# Altium integrated library Altium_WCAP-FTBE (rev22a).IntLib: 31 symbols
Pins are listed as number, name and electrical type; pins without a type are passive.

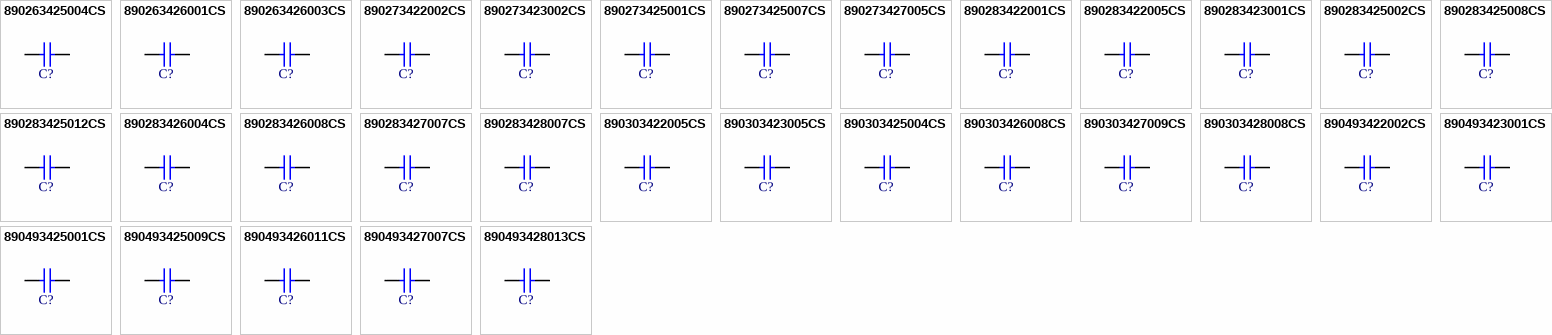
[diagram p0: symbols 890263425004CS to 890493428013CS]

## 890263425004CS
designator C?, comment 2.2uF  (value not drawn)
WCAP-FTBE Film Capacitor, THT, L18W8.5H15mm, 2.2uF, 100V; Manufacturer: Wurth Elektronik; Manufacturer Part Number: 890263425004CS; Capacitance Tolerance: +/-10%; Dissipation Factor @1kHz: 1%; Dissipation Factor @10kHz: 1.6%; Dissipation Factor @100kHz: 5%; Insulation Resistance: 3000Ohm x F; Pitch: 15mm; Rate of Voltage Rise: 9V/us; Technical Reference: MPSP015225K100DCPP45004; ComponentLink1Description: Manufacturer Link; ComponentLink1URL: https://www.we-online.com/redexpert/article/890263425004CS?ad; ComponentLink2Description: Datasheet; ComponentLink2URL: https://www.we-online.com/redexpert/spec/890263425004CS?ad; Category: Film Capacitors; Match Code: WCAP-FTBE; Mount: Through Hole; Operating Temperature Max: 85°C; Operating Temperature Min: -40°C; Packaging: Carton; Length: 18mm; Width: 8.5mm; Height: 15mm; Capacitance: 2.2uF; Rated Voltage (DC): 100V
footprint WCAP-FTBE_L18W8.5H15
pins: 1, 2

## 890263426001CS
designator C?, comment 2.2uF  (value not drawn)
WCAP-FTBE Film Capacitor, THT, L26W6H15mm, 2.2uF, 100V; Manufacturer: Wurth Elektronik; Manufacturer Part Number: 890263426001CS; Capacitance Tolerance: +/-10%; Dissipation Factor @1kHz: 1%; Dissipation Factor @10kHz: 2%; Dissipation Factor @100kHz: 10%; Insulation Resistance: 3000Ohm x F; Pitch: 22.5mm; Rate of Voltage Rise: 5V/us; Technical Reference: MPSP225225K100DCPP45004; ComponentLink1Description: Manufacturer Link; ComponentLink1URL: https://www.we-online.com/redexpert/article/890263426001CS?ad; ComponentLink2Description: Datasheet; ComponentLink2URL: https://www.we-online.com/redexpert/spec/890263426001CS?ad; Category: Film Capacitors; Match Code: WCAP-FTBE; Mount: Through Hole; Operating Temperature Max: 85°C; Operating Temperature Min: -40°C; Packaging: Carton; Length: 26mm; Width: 6mm; Height: 15mm; Capacitance: 2.2uF; Rated Voltage (DC): 100V
footprint WCAP-FTBE_L26W6H15
pins: 1, 2

## 890263426003CS
designator C?, comment 3.3uF  (value not drawn)
WCAP-FTBE Film Capacitor, THT, L26W7H16.5mm, 3.3uF, 100V; Manufacturer: Wurth Elektronik; Manufacturer Part Number: 890263426003CS; Capacitance Tolerance: +/-10%; Dissipation Factor @1kHz: 1%; Dissipation Factor @10kHz: 2.1%; Dissipation Factor @100kHz: 10%; Insulation Resistance: 3000Ohm x F; Pitch: 22.5mm; Rate of Voltage Rise: 5V/us; Technical Reference: MPSP225335K100DCPP35004; ComponentLink1Description: Manufacturer Link; ComponentLink1URL: https://www.we-online.com/redexpert/article/890263426003CS?ad; ComponentLink2Description: Datasheet; ComponentLink2URL: https://www.we-online.com/redexpert/spec/890263426003CS?ad; Category: Film Capacitors; Match Code: WCAP-FTBE; Mount: Through Hole; Operating Temperature Max: 85°C; Operating Temperature Min: -40°C; Packaging: Carton; Length: 26mm; Width: 7mm; Height: 16.5mm; Capacitance: 3.3uF; Rated Voltage (DC): 100V
footprint WCAP-FTBE_L26W7H16.5
pins: 1, 2

## 890273422002CS
designator C?, comment 220nF  (value not drawn)
WCAP-FTBE Film Capacitor, THT, L10.5W6H12mm, 220nF, 250V; Manufacturer: Wurth Elektronik; Manufacturer Part Number: 890273422002CS; Capacitance Tolerance: +/-10%; Dissipation Factor @1kHz: 1%; Dissipation Factor @10kHz: 1.4%; Dissipation Factor @100kHz: 2.4%; Insulation Resistance: 9000MOhm; Pitch: 7.5mm; Rate of Voltage Rise: 38V/us; Technical Reference: MPSP075224K250DCPP45004; ComponentLink1Description: Manufacturer Link; ComponentLink1URL: https://www.we-online.com/redexpert/article/890273422002CS?ad; ComponentLink2Description: Datasheet; ComponentLink2URL: https://www.we-online.com/redexpert/spec/890273422002CS?ad; Category: Film Capacitors; Match Code: WCAP-FTBE; Mount: Through Hole; Operating Temperature Max: 85°C; Operating Temperature Min: -40°C; Packaging: Carton; Length: 10.5mm; Width: 6mm; Height: 12mm; Capacitance: 220nF; Rated Voltage (DC): 250V
footprint WCAP-FTBE_L10.5W6H12
pins: 1, 2

## 890273423002CS
designator C?, comment 220nF  (value not drawn)
WCAP-FTBE Film Capacitor, THT, L13W5H11mm, 220nF, 250V; Manufacturer: Wurth Elektronik; Manufacturer Part Number: 890273423002CS; Capacitance Tolerance: +/-10%; Dissipation Factor @1kHz: 1%; Dissipation Factor @10kHz: 1.4%; Dissipation Factor @100kHz: 3.1%; Insulation Resistance: 9000MOhm; Pitch: 10mm; Rate of Voltage Rise: 23V/us; Technical Reference: MPSP010224K250DCPP55004; ComponentLink1Description: Manufacturer Link; ComponentLink1URL: https://www.we-online.com/redexpert/article/890273423002CS?ad; ComponentLink2Description: Datasheet; ComponentLink2URL: https://www.we-online.com/redexpert/spec/890273423002CS?ad; Category: Film Capacitors; Match Code: WCAP-FTBE; Mount: Through Hole; Operating Temperature Max: 85°C; Operating Temperature Min: -40°C; Packaging: Carton; Length: 13mm; Width: 5mm; Height: 11mm; Capacitance: 220nF; Rated Voltage (DC): 250V
footprint WCAP-FTBE_L13W5H11
pins: 1, 2

## 890273425001CS
designator C?, comment 330nF  (value not drawn)
WCAP-FTBE Film Capacitor, THT, L18W5H11mm, 330nF, 250V; Manufacturer: Wurth Elektronik; Manufacturer Part Number: 890273425001CS; Capacitance Tolerance: +/-10%; Dissipation Factor @1kHz: 1%; Dissipation Factor @10kHz: 1.5%; Dissipation Factor @100kHz: 4%; Insulation Resistance: 9000MOhm; Pitch: 15mm; Rate of Voltage Rise: 8V/us; Technical Reference: MPSP015334K250DCPP45004; ComponentLink1Description: Manufacturer Link; ComponentLink1URL: https://www.we-online.com/redexpert/article/890273425001CS?ad; ComponentLink2Description: Datasheet; ComponentLink2URL: https://www.we-online.com/redexpert/spec/890273425001CS?ad; Category: Film Capacitors; Match Code: WCAP-FTBE; Mount: Through Hole; Operating Temperature Max: 85°C; Operating Temperature Min: -40°C; Packaging: Carton; Length: 18mm; Width: 5mm; Height: 11mm; Capacitance: 330nF; Rated Voltage (DC): 250V
footprint WCAP-FTBE_L18W5H11
pins: 1, 2

## 890273425007CS
designator C?, comment 1uF  (value not drawn)
WCAP-FTBE Film Capacitor, THT, L18W7H13mm, 1uF, 250V; Manufacturer: Wurth Elektronik; Manufacturer Part Number: 890273425007CS; Capacitance Tolerance: +/-10%; Dissipation Factor @1kHz: 1%; Dissipation Factor @10kHz: 1.5%; Dissipation Factor @100kHz: 4.3%; Insulation Resistance: 3000Ohm x F; Pitch: 15mm; Rate of Voltage Rise: 11V/us; Technical Reference: MPSP015105K250DCPP45004; ComponentLink1Description: Manufacturer Link; ComponentLink1URL: https://www.we-online.com/redexpert/article/890273425007CS?ad; ComponentLink2Description: Datasheet; ComponentLink2URL: https://www.we-online.com/redexpert/spec/890273425007CS?ad; Category: Film Capacitors; Match Code: WCAP-FTBE; Mount: Through Hole; Operating Temperature Max: 85°C; Operating Temperature Min: -40°C; Packaging: Carton; Length: 18mm; Width: 7mm; Height: 13mm; Capacitance: 1uF; Rated Voltage (DC): 250V
footprint WCAP-FTBE_L18W7H13
pins: 1, 2

## 890273427005CS
designator C?, comment 4.7uF  (value not drawn)
WCAP-FTBE Film Capacitor, THT, L31W11H20mm, 4.7uF, 250V; Manufacturer: Wurth Elektronik; Manufacturer Part Number: 890273427005CS; Capacitance Tolerance: +/-10%; Dissipation Factor @1kHz: 1%; Dissipation Factor @10kHz: 2.2%; Dissipation Factor @100kHz: 11%; Insulation Resistance: 3000Ohm x F; Pitch: 27.5mm; Rate of Voltage Rise: 6V/us; Technical Reference: MPSP275475K250DCPP35004; ComponentLink1Description: Manufacturer Link; ComponentLink1URL: https://www.we-online.com/redexpert/article/890273427005CS?ad; ComponentLink2Description: Datasheet; ComponentLink2URL: https://www.we-online.com/redexpert/spec/890273427005CS?ad; Category: Film Capacitors; Match Code: WCAP-FTBE; Mount: Through Hole; Operating Temperature Max: 85°C; Operating Temperature Min: -40°C; Packaging: Carton; Length: 31mm; Width: 11mm; Height: 20mm; Capacitance: 4.7uF; Rated Voltage (DC): 250V
footprint WCAP-FTBE_L31W11H20
pins: 1, 2

## 890283422001CS
designator C?, comment 68nF  (value not drawn)
WCAP-FTBE Film Capacitor, THT, L10.5W5H11mm, 68nF, 400V; Manufacturer: Wurth Elektronik; Manufacturer Part Number: 890283422001CS; Capacitance Tolerance: +/-10%; Dissipation Factor @1kHz: 1%; Dissipation Factor @10kHz: 1.4%; Dissipation Factor @100kHz: 2.3%; Insulation Resistance: 9000MOhm; Pitch: 7.5mm; Rate of Voltage Rise: 44V/us; Technical Reference: MPSP075683K400DCPP45004; ComponentLink1Description: Manufacturer Link; ComponentLink1URL: https://www.we-online.com/redexpert/article/890283422001CS?ad; ComponentLink2Description: Datasheet; ComponentLink2URL: https://www.we-online.com/redexpert/spec/890283422001CS?ad; Category: Film Capacitors; Match Code: WCAP-FTBE; Mount: Through Hole; Operating Temperature Max: 85°C; Operating Temperature Min: -40°C; Packaging: Carton; Length: 10.5mm; Width: 5mm; Height: 11mm; Capacitance: 68nF; Rated Voltage (DC): 400V
footprint WCAP-FTBE_L10.5W5H11
pins: 1, 2

## 890283422005CS
designator C?, comment 150nF  (value not drawn)
WCAP-FTBE Film Capacitor, THT, L10.5W6H12mm, 150nF, 400V; Manufacturer: Wurth Elektronik; Manufacturer Part Number: 890283422005CS; Capacitance Tolerance: +/-10%; Dissipation Factor @1kHz: 1%; Dissipation Factor @10kHz: 1.4%; Dissipation Factor @100kHz: 2.3%; Insulation Resistance: 9000MOhm; Pitch: 7.5mm; Rate of Voltage Rise: 46V/us; Technical Reference: MPSP075154K400DCPP45004; ComponentLink1Description: Manufacturer Link; ComponentLink1URL: https://www.we-online.com/redexpert/article/890283422005CS?ad; ComponentLink2Description: Datasheet; ComponentLink2URL: https://www.we-online.com/redexpert/spec/890283422005CS?ad; Category: Film Capacitors; Match Code: WCAP-FTBE; Mount: Through Hole; Operating Temperature Max: 85°C; Operating Temperature Min: -40°C; Packaging: Carton; Length: 10.5mm; Width: 6mm; Height: 12mm; Capacitance: 150nF; Rated Voltage (DC): 400V
footprint WCAP-FTBE_L10.5W6H12
pins: 1, 2

## 890283423001CS
designator C?, comment 100nF  (value not drawn)
WCAP-FTBE Film Capacitor, THT, L13W5H11mm, 100nF, 400V; Manufacturer: Wurth Elektronik; Manufacturer Part Number: 890283423001CS; Capacitance Tolerance: +/-10%; Dissipation Factor @1kHz: 1%; Dissipation Factor @10kHz: 1.4%; Dissipation Factor @100kHz: 2.4%; Insulation Resistance: 9000MOhm; Pitch: 10mm; Rate of Voltage Rise: 34V/us; Technical Reference: MPSP010104K400DCPP55004; ComponentLink1Description: Manufacturer Link; ComponentLink1URL: https://www.we-online.com/redexpert/article/890283423001CS?ad; ComponentLink2Description: Datasheet; ComponentLink2URL: https://www.we-online.com/redexpert/spec/890283423001CS?ad; Category: Film Capacitors; Match Code: WCAP-FTBE; Mount: Through Hole; Operating Temperature Max: 85°C; Operating Temperature Min: -40°C; Packaging: Carton; Length: 13mm; Width: 5mm; Height: 11mm; Capacitance: 100nF; Rated Voltage (DC): 400V
footprint WCAP-FTBE_L13W5H11
pins: 1, 2

## 890283425002CS
designator C?, comment 220nF  (value not drawn)
WCAP-FTBE Film Capacitor, THT, L18W5H11mm, 220nF, 400V; Manufacturer: Wurth Elektronik; Manufacturer Part Number: 890283425002CS; Capacitance Tolerance: +/-10%; Dissipation Factor @1kHz: 1%; Dissipation Factor @10kHz: 1.5%; Dissipation Factor @100kHz: 3.6%; Insulation Resistance: 9000MOhm; Pitch: 15mm; Rate of Voltage Rise: 12V/us; Technical Reference: MPSP015224K400DCPP45004; ComponentLink1Description: Manufacturer Link; ComponentLink1URL: https://www.we-online.com/redexpert/article/890283425002CS?ad; ComponentLink2Description: Datasheet; ComponentLink2URL: https://www.we-online.com/redexpert/spec/890283425002CS?ad; Category: Film Capacitors; Match Code: WCAP-FTBE; Mount: Through Hole; Operating Temperature Max: 85°C; Operating Temperature Min: -40°C; Packaging: Carton; Length: 18mm; Width: 5mm; Height: 11mm; Capacitance: 220nF; Rated Voltage (DC): 400V
footprint WCAP-FTBE_L18W5H11
pins: 1, 2

## 890283425008CS
designator C?, comment 680nF  (value not drawn)
WCAP-FTBE Film Capacitor, THT, L18W8.5H15mm, 680nF, 400V; Manufacturer: Wurth Elektronik; Manufacturer Part Number: 890283425008CS; Capacitance Tolerance: +/-10%; Dissipation Factor @1kHz: 1%; Dissipation Factor @10kHz: 1.5%; Dissipation Factor @100kHz: 3.8%; Insulation Resistance: 3000Ohm x F; Pitch: 15mm; Rate of Voltage Rise: 18V/us; Technical Reference: MPSP015684K400DCPP45004; ComponentLink1Description: Manufacturer Link; ComponentLink1URL: https://www.we-online.com/redexpert/article/890283425008CS?ad; ComponentLink2Description: Datasheet; ComponentLink2URL: https://www.we-online.com/redexpert/spec/890283425008CS?ad; Category: Film Capacitors; Match Code: WCAP-FTBE; Mount: Through Hole; Operating Temperature Max: 85°C; Operating Temperature Min: -40°C; Packaging: Carton; Length: 18mm; Width: 8.5mm; Height: 15mm; Capacitance: 680nF; Rated Voltage (DC): 400V
footprint WCAP-FTBE_L18W8.5H15
pins: 1, 2

## 890283425012CS
designator C?, comment 1.5uF  (value not drawn)
WCAP-FTBE Film Capacitor, THT, L18W12H21mm, 1.5uF, 400V; Manufacturer: Wurth Elektronik; Manufacturer Part Number: 890283425012CS; Capacitance Tolerance: +/-10%; Dissipation Factor @1kHz: 1%; Dissipation Factor @10kHz: 1.5%; Dissipation Factor @100kHz: 4%; Insulation Resistance: 3000Ohm x F; Pitch: 15mm; Rate of Voltage Rise: 20V/us; Technical Reference: MPSP015155K400DCPP35004; ComponentLink1Description: Manufacturer Link; ComponentLink1URL: https://www.we-online.com/redexpert/article/890283425012CS?ad; ComponentLink2Description: Datasheet; ComponentLink2URL: https://www.we-online.com/redexpert/spec/890283425012CS?ad; Category: Film Capacitors; Match Code: WCAP-FTBE; Mount: Through Hole; Operating Temperature Max: 85°C; Operating Temperature Min: -40°C; Packaging: Carton; Length: 18mm; Width: 12mm; Height: 21mm; Capacitance: 1.5uF; Rated Voltage (DC): 400V
footprint WCAP-FTBE_L18W12H21
pins: 1, 2

## 890283426004CS
designator C?, comment 470nF  (value not drawn)
WCAP-FTBE Film Capacitor, THT, L26W6H15mm, 470nF, 400V; Manufacturer: Wurth Elektronik; Manufacturer Part Number: 890283426004CS; Capacitance Tolerance: +/-10%; Dissipation Factor @1kHz: 1%; Dissipation Factor @10kHz: 1.6%; Dissipation Factor @100kHz: 4.6%; Insulation Resistance: 3000Ohm x F; Pitch: 22.5mm; Rate of Voltage Rise: 11V/us; Technical Reference: MPSP225474K400DCPP45004; ComponentLink1Description: Manufacturer Link; ComponentLink1URL: https://www.we-online.com/redexpert/article/890283426004CS?ad; ComponentLink2Description: Datasheet; ComponentLink2URL: https://www.we-online.com/redexpert/spec/890283426004CS?ad; Category: Film Capacitors; Match Code: WCAP-FTBE; Mount: Through Hole; Operating Temperature Max: 85°C; Operating Temperature Min: -40°C; Packaging: Carton; Length: 26mm; Width: 6mm; Height: 15mm; Capacitance: 470nF; Rated Voltage (DC): 400V
footprint WCAP-FTBE_L26W6H15
pins: 1, 2

## 890283426008CS
designator C?, comment 1uF  (value not drawn)
WCAP-FTBE Film Capacitor, THT, L26W9H18mm, 1uF, 400V; Manufacturer: Wurth Elektronik; Manufacturer Part Number: 890283426008CS; Capacitance Tolerance: +/-10%; Dissipation Factor @1kHz: 1%; Dissipation Factor @10kHz: 1.6%; Dissipation Factor @100kHz: 4.8%; Insulation Resistance: 3000Ohm x F; Pitch: 22.5mm; Rate of Voltage Rise: 13V/us; Technical Reference: MPSP225105K400DCPP35004; ComponentLink1Description: Manufacturer Link; ComponentLink1URL: https://www.we-online.com/redexpert/article/890283426008CS?ad; ComponentLink2Description: Datasheet; ComponentLink2URL: https://www.we-online.com/redexpert/spec/890283426008CS?ad; Category: Film Capacitors; Match Code: WCAP-FTBE; Mount: Through Hole; Operating Temperature Max: 85°C; Operating Temperature Min: -40°C; Packaging: Carton; Length: 26mm; Width: 9mm; Height: 18mm; Capacitance: 1uF; Rated Voltage (DC): 400V
footprint WCAP-FTBE_L26W9H18
pins: 1, 2

## 890283427007CS
designator C?, comment 3.3uF  (value not drawn)
WCAP-FTBE Film Capacitor, THT, L31W15H24.5mm, 3.3uF, 400V; Manufacturer: Wurth Elektronik; Manufacturer Part Number: 890283427007CS; Capacitance Tolerance: +/-10%; Dissipation Factor @1kHz: 1%; Dissipation Factor @10kHz: 2%; Dissipation Factor @100kHz: 9%; Insulation Resistance: 3000Ohm x F; Pitch: 27.5mm; Rate of Voltage Rise: 11V/us; Technical Reference: MPSP275335K400DCPP25004; ComponentLink1Description: Manufacturer Link; ComponentLink1URL: https://www.we-online.com/redexpert/article/890283427007CS?ad; ComponentLink2Description: Datasheet; ComponentLink2URL: https://www.we-online.com/redexpert/spec/890283427007CS?ad; Category: Film Capacitors; Match Code: WCAP-FTBE; Mount: Through Hole; Operating Temperature Max: 85°C; Operating Temperature Min: -40°C; Packaging: Carton; Length: 31mm; Width: 15mm; Height: 24.5mm; Capacitance: 3.3uF; Rated Voltage (DC): 400V
footprint WCAP-FTBE_L31W15H24.5
pins: 1, 2

## 890283428007CS
designator C?, comment 6.8uF  (value not drawn)
WCAP-FTBE Film Capacitor, THT, L42W20.5H34mm, 6.8uF, 400V; Manufacturer: Wurth Elektronik; Manufacturer Part Number: 890283428007CS; Capacitance Tolerance: +/-10%; Dissipation Factor @1kHz: 1%; Dissipation Factor @10kHz: 2.3%; Dissipation Factor @100kHz: 13%; Insulation Resistance: 3000Ohm x F; Pitch: 37.5mm; Rate of Voltage Rise: 9V/us; Technical Reference: MPSP375685K400DCPP25004; ComponentLink1Description: Manufacturer Link; ComponentLink1URL: https://www.we-online.com/redexpert/article/890283428007CS?ad; ComponentLink2Description: Datasheet; ComponentLink2URL: https://www.we-online.com/redexpert/spec/890283428007CS?ad; Category: Film Capacitors; Match Code: WCAP-FTBE; Mount: Through Hole; Operating Temperature Max: 85°C; Operating Temperature Min: -40°C; Packaging: Carton; Length: 42mm; Width: 20.5mm; Height: 34mm; Capacitance: 6.8uF; Rated Voltage (DC): 400V
footprint WCAP-FTBE_L42W20.5H34
pins: 1, 2

## 890303422005CS
designator C?, comment 47nF  (value not drawn)
WCAP-FTBE Film Capacitor, THT, L10.5W6H12mm, 47nF, 630V; Manufacturer: Wurth Elektronik; Manufacturer Part Number: 890303422005CS; Capacitance Tolerance: +/-10%; Dissipation Factor @1kHz: 1%; Dissipation Factor @10kHz: 1.4%; Dissipation Factor @100kHz: 2.2%; Insulation Resistance: 9000MOhm; Pitch: 7.5mm; Rate of Voltage Rise: 100V/us; Technical Reference: MPSP075473K630DCPP45004; ComponentLink1Description: Manufacturer Link; ComponentLink1URL: https://www.we-online.com/redexpert/article/890303422005CS?ad; ComponentLink2Description: Datasheet; ComponentLink2URL: https://www.we-online.com/redexpert/spec/890303422005CS?ad; Category: Film Capacitors; Match Code: WCAP-FTBE; Mount: Through Hole; Operating Temperature Max: 85°C; Operating Temperature Min: -40°C; Packaging: Carton; Length: 10.5mm; Width: 6mm; Height: 12mm; Capacitance: 47nF; Rated Voltage (DC): 630V
footprint WCAP-FTBE_L10.5W6H12
pins: 1, 2

## 890303423005CS
designator C?, comment 68nF  (value not drawn)
WCAP-FTBE Film Capacitor, THT, L13W5.5H11mm, 68nF, 630V; Manufacturer: Wurth Elektronik; Manufacturer Part Number: 890303423005CS; Capacitance Tolerance: +/-10%; Dissipation Factor @1kHz: 1%; Dissipation Factor @10kHz: 1.4%; Dissipation Factor @100kHz: 2.3%; Insulation Resistance: 9000MOhm; Pitch: 10mm; Rate of Voltage Rise: 52V/us; Technical Reference: MPSP010683K630DCPP55004; ComponentLink1Description: Manufacturer Link; ComponentLink1URL: https://www.we-online.com/redexpert/article/890303423005CS?ad; ComponentLink2Description: Datasheet; ComponentLink2URL: https://www.we-online.com/redexpert/spec/890303423005CS?ad; Category: Film Capacitors; Match Code: WCAP-FTBE; Mount: Through Hole; Operating Temperature Max: 85°C; Operating Temperature Min: -40°C; Packaging: Carton; Length: 13mm; Width: 5.5mm; Height: 11mm; Capacitance: 68nF; Rated Voltage (DC): 630V
footprint WCAP-FTBE_L13W5.5H11
pins: 1, 2

## 890303425004CS
designator C?, comment 100nF  (value not drawn)
WCAP-FTBE Film Capacitor, THT, L18W6H12mm, 100nF, 630V; Manufacturer: Wurth Elektronik; Manufacturer Part Number: 890303425004CS; Capacitance Tolerance: +/-10%; Dissipation Factor @1kHz: 1%; Dissipation Factor @10kHz: 1.4%; Dissipation Factor @100kHz: 3.2%; Insulation Resistance: 9000MOhm; Pitch: 15mm; Rate of Voltage Rise: 28V/us; Technical Reference: MPSP015104K630DCPP45004; ComponentLink1Description: Manufacturer Link; ComponentLink1URL: https://www.we-online.com/redexpert/article/890303425004CS?ad; ComponentLink2Description: Datasheet; ComponentLink2URL: https://www.we-online.com/redexpert/spec/890303425004CS?ad; Category: Film Capacitors; Match Code: WCAP-FTBE; Mount: Through Hole; Operating Temperature Max: 85°C; Operating Temperature Min: -40°C; Packaging: Carton; Length: 18mm; Width: 6mm; Height: 12mm; Capacitance: 100nF; Rated Voltage (DC): 630V
footprint WCAP-FTBE_L18W6H12
pins: 1, 2

## 890303426008CS
designator C?, comment 470nF  (value not drawn)
WCAP-FTBE Film Capacitor, THT, L26W9H18mm, 470nF, 630V; Manufacturer: Wurth Elektronik; Manufacturer Part Number: 890303426008CS; Capacitance Tolerance: +/-10%; Dissipation Factor @1kHz: 1%; Dissipation Factor @10kHz: 1.5%; Dissipation Factor @100kHz: 4%; Insulation Resistance: 3000Ohm x F; Pitch: 22.5mm; Rate of Voltage Rise: 20V/us; Technical Reference: MPSP225474K630DCPP35004; ComponentLink1Description: Manufacturer Link; ComponentLink1URL: https://www.we-online.com/redexpert/article/890303426008CS?ad; ComponentLink2Description: Datasheet; ComponentLink2URL: https://www.we-online.com/redexpert/spec/890303426008CS?ad; Category: Film Capacitors; Match Code: WCAP-FTBE; Mount: Through Hole; Operating Temperature Max: 85°C; Operating Temperature Min: -40°C; Packaging: Carton; Length: 26mm; Width: 9mm; Height: 18mm; Capacitance: 470nF; Rated Voltage (DC): 630V
footprint WCAP-FTBE_L26W9H18
pins: 1, 2

## 890303427009CS
designator C?, comment 1.5uF  (value not drawn)
WCAP-FTBE Film Capacitor, THT, L31W15H24.5mm, 1.5uF, 630V; Manufacturer: Wurth Elektronik; Manufacturer Part Number: 890303427009CS; Capacitance Tolerance: +/-10%; Dissipation Factor @1kHz: 1%; Dissipation Factor @10kHz: 1.6%; Dissipation Factor @100kHz: 5.2%; Insulation Resistance: 3000Ohm x F; Pitch: 27.5mm; Rate of Voltage Rise: 17V/us; Technical Reference: MPSP275155K630DCPP25004; ComponentLink1Description: Manufacturer Link; ComponentLink1URL: https://www.we-online.com/redexpert/article/890303427009CS?ad; ComponentLink2Description: Datasheet; ComponentLink2URL: https://www.we-online.com/redexpert/spec/890303427009CS?ad; Category: Film Capacitors; Match Code: WCAP-FTBE; Mount: Through Hole; Operating Temperature Max: 85°C; Operating Temperature Min: -40°C; Packaging: Carton; Length: 31mm; Width: 15mm; Height: 24.5mm; Capacitance: 1.5uF; Rated Voltage (DC): 630V
footprint WCAP-FTBE_L31W15H24.5
pins: 1, 2

## 890303428008CS
designator C?, comment 3.3uF  (value not drawn)
WCAP-FTBE Film Capacitor, THT, L42W17H30mm, 3.3uF, 630V; Manufacturer: Wurth Elektronik; Manufacturer Part Number: 890303428008CS; Capacitance Tolerance: +/-10%; Dissipation Factor @1kHz: 1%; Dissipation Factor @10kHz: 2.1%; Dissipation Factor @100kHz: 11%; Insulation Resistance: 3000Ohm x F; Pitch: 37.5mm; Rate of Voltage Rise: 12V/us; Technical Reference: MPSP375335K630DCPP25004; ComponentLink1Description: Manufacturer Link; ComponentLink1URL: https://www.we-online.com/redexpert/article/890303428008CS?ad; ComponentLink2Description: Datasheet; ComponentLink2URL: https://www.we-online.com/redexpert/spec/890303428008CS?ad; Category: Film Capacitors; Match Code: WCAP-FTBE; Mount: Through Hole; Operating Temperature Max: 85°C; Operating Temperature Min: -40°C; Packaging: Carton; Length: 42mm; Width: 17mm; Height: 30mm; Capacitance: 3.3uF; Rated Voltage (DC): 630V
footprint WCAP-FTBE_L42W17H30
pins: 1, 2

## 890493422002CS
designator C?, comment 10nF  (value not drawn)
WCAP-FTBE Film Capacitor, THT, L10.5W6H12mm, 10nF, 1000V; Manufacturer: Wurth Elektronik; Manufacturer Part Number: 890493422002CS; Capacitance Tolerance: +/-10%; Dissipation Factor @1kHz: 1%; Dissipation Factor @10kHz: 1.4%; Dissipation Factor @100kHz: 2.2%; Insulation Resistance: 9000MOhm; Pitch: 7.5mm; Rate of Voltage Rise: 160V/us; Technical Reference: MPSP075103KA00DCPP45004; ComponentLink1Description: Manufacturer Link; ComponentLink1URL: https://www.we-online.com/redexpert/article/890493422002CS?ad; ComponentLink2Description: Datasheet; ComponentLink2URL: https://www.we-online.com/redexpert/spec/890493422002CS?ad; Category: Film Capacitors; Match Code: WCAP-FTBE; Mount: Through Hole; Operating Temperature Max: 85°C; Operating Temperature Min: -40°C; Packaging: Carton; Length: 10.5mm; Width: 6mm; Height: 12mm; Capacitance: 10nF; Rated Voltage (DC): 1000V
footprint WCAP-FTBE_L10.5W6H12
pins: 1, 2

## 890493423001CS
designator C?, comment 15nF  (value not drawn)
WCAP-FTBE Film Capacitor, THT, L13W5H11mm, 15nF, 1000V; Manufacturer: Wurth Elektronik; Manufacturer Part Number: 890493423001CS; Capacitance Tolerance: +/-10%; Dissipation Factor @1kHz: 1%; Dissipation Factor @10kHz: 1.4%; Dissipation Factor @100kHz: 2.2%; Insulation Resistance: 9000MOhm; Pitch: 10mm; Rate of Voltage Rise: 83V/us; Technical Reference: MPSP010153KA00DCPP55004; ComponentLink1Description: Manufacturer Link; ComponentLink1URL: https://www.we-online.com/redexpert/article/890493423001CS?ad; ComponentLink2Description: Datasheet; ComponentLink2URL: https://www.we-online.com/redexpert/spec/890493423001CS?ad; Category: Film Capacitors; Match Code: WCAP-FTBE; Mount: Through Hole; Operating Temperature Max: 85°C; Operating Temperature Min: -40°C; Packaging: Carton; Length: 13mm; Width: 5mm; Height: 11mm; Capacitance: 15nF; Rated Voltage (DC): 1000V
footprint WCAP-FTBE_L13W5H11
pins: 1, 2

## 890493425001CS
designator C?, comment 22nF  (value not drawn)
WCAP-FTBE Film Capacitor, THT, L18W5H11mm, 22nF, 1000V; Manufacturer: Wurth Elektronik; Manufacturer Part Number: 890493425001CS; Capacitance Tolerance: +/-10%; Dissipation Factor @1kHz: 1%; Dissipation Factor @10kHz: 1.4%; Dissipation Factor @100kHz: 2.5%; Insulation Resistance: 9000MOhm; Pitch: 15mm; Rate of Voltage Rise: 27V/us; Technical Reference: MPSP015223KA00DCPP45004; ComponentLink1Description: Manufacturer Link; ComponentLink1URL: https://www.we-online.com/redexpert/article/890493425001CS?ad; ComponentLink2Description: Datasheet; ComponentLink2URL: https://www.we-online.com/redexpert/spec/890493425001CS?ad; Category: Film Capacitors; Match Code: WCAP-FTBE; Mount: Through Hole; Operating Temperature Max: 85°C; Operating Temperature Min: -40°C; Packaging: Carton; Length: 18mm; Width: 5mm; Height: 11mm; Capacitance: 22nF; Rated Voltage (DC): 1000V
footprint WCAP-FTBE_L18W5H11
pins: 1, 2

## 890493425009CS
designator C?, comment 100nF  (value not drawn)
WCAP-FTBE Film Capacitor, THT, L18W8.5H15mm, 100nF, 1000V; Manufacturer: Wurth Elektronik; Manufacturer Part Number: 890493425009CS; Capacitance Tolerance: +/-10%; Dissipation Factor @1kHz: 1%; Dissipation Factor @10kHz: 1.4%; Dissipation Factor @100kHz: 2.5%; Insulation Resistance: 9000MOhm; Pitch: 15mm; Rate of Voltage Rise: 44V/us; Technical Reference: MPSP015104KA00DCPP45004; ComponentLink1Description: Manufacturer Link; ComponentLink1URL: https://www.we-online.com/redexpert/article/890493425009CS?ad; ComponentLink2Description: Datasheet; ComponentLink2URL: https://www.we-online.com/redexpert/spec/890493425009CS?ad; Category: Film Capacitors; Match Code: WCAP-FTBE; Mount: Through Hole; Operating Temperature Max: 85°C; Operating Temperature Min: -40°C; Packaging: Carton; Length: 18mm; Width: 8.5mm; Height: 15mm; Capacitance: 100nF; Rated Voltage (DC): 1000V
footprint WCAP-FTBE_L18W8.5H15
pins: 1, 2

## 890493426011CS
designator C?, comment 220nF  (value not drawn)
WCAP-FTBE Film Capacitor, THT, L26W9H18mm, 220nF, 1000V; Manufacturer: Wurth Elektronik; Manufacturer Part Number: 890493426011CS; Capacitance Tolerance: +/-10%; Dissipation Factor @1kHz: 1%; Dissipation Factor @10kHz: 1.5%; Dissipation Factor @100kHz: 3.6%; Insulation Resistance: 9000MOhm; Pitch: 22.5mm; Rate of Voltage Rise: 27V/us; Technical Reference: MPSP225224KA00DCPP35004; ComponentLink1Description: Manufacturer Link; ComponentLink1URL: https://www.we-online.com/redexpert/article/890493426011CS?ad; ComponentLink2Description: Datasheet; ComponentLink2URL: https://www.we-online.com/redexpert/spec/890493426011CS?ad; Category: Film Capacitors; Match Code: WCAP-FTBE; Mount: Through Hole; Operating Temperature Max: 85°C; Operating Temperature Min: -40°C; Packaging: Carton; Length: 26mm; Width: 9mm; Height: 18mm; Capacitance: 220nF; Rated Voltage (DC): 1000V
footprint WCAP-FTBE_L26W9H18
pins: 1, 2

## 890493427007CS
designator C?, comment 470nF  (value not drawn)
WCAP-FTBE Film Capacitor, THT, L31W11H20mm, 470nF, 1000V; Manufacturer: Wurth Elektronik; Manufacturer Part Number: 890493427007CS; Capacitance Tolerance: +/-10%; Dissipation Factor @1kHz: 1%; Dissipation Factor @10kHz: 1.5%; Dissipation Factor @100kHz: 4.3%; Insulation Resistance: 3000Ohm x F; Pitch: 27.5mm; Rate of Voltage Rise: 22V/us; Technical Reference: MPSP275474KA00DCPP35004; ComponentLink1Description: Manufacturer Link; ComponentLink1URL: https://www.we-online.com/redexpert/article/890493427007CS?ad; ComponentLink2Description: Datasheet; ComponentLink2URL: https://www.we-online.com/redexpert/spec/890493427007CS?ad; Category: Film Capacitors; Match Code: WCAP-FTBE; Mount: Through Hole; Operating Temperature Max: 85°C; Operating Temperature Min: -40°C; Packaging: Carton; Length: 31mm; Width: 11mm; Height: 20mm; Capacitance: 470nF; Rated Voltage (DC): 1000V
footprint WCAP-FTBE_L31W11H20
pins: 1, 2

## 890493428013CS
designator C?, comment 4.7uF  (value not drawn)
WCAP-FTBE Film Capacitor, THT, L42W31H43mm, 4.7uF, 1000V; Manufacturer: Wurth Elektronik; Manufacturer Part Number: 890493428013CS; Capacitance Tolerance: +/-10%; Dissipation Factor @1kHz: 1%; Dissipation Factor @10kHz: 2%; Dissipation Factor @100kHz: 10%; Insulation Resistance: 3000Ohm x F; Pitch: 37.5mm; Rate of Voltage Rise: 16V/us; Technical Reference: MPSP375475KA00DCPP25004; ComponentLink1Description: Manufacturer Link; ComponentLink1URL: https://www.we-online.com/redexpert/article/890493428013CS?ad; ComponentLink2Description: Datasheet; ComponentLink2URL: https://www.we-online.com/redexpert/spec/890493428013CS?ad; Category: Film Capacitors; Match Code: WCAP-FTBE; Mount: Through Hole; Operating Temperature Max: 85°C; Operating Temperature Min: -40°C; Packaging: Carton; Length: 42mm; Width: 31mm; Height: 43mm; Capacitance: 4.7uF; Rated Voltage (DC): 1000V
footprint WCAP-FTBE_L42W31H43
pins: 1, 2